# EAGLE library part 1508АС015 (library microwave)
АЕНВ.431230.245 ТУ 1508АС015 - Микросхема синтезатора частот с дробным коэффициентом деления и основной частотой до 12 ГГц. Производитель: АО "ПКК Миландр", г. Москва, Зеленоград.
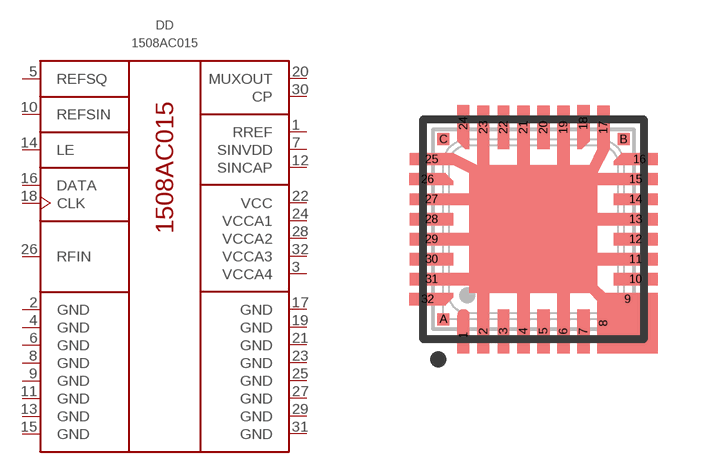
[diagram p20: symbol with the pads of 5102.32-2К; footprint 5102.32-2К]

Designator prefix DD

## 1508АС015  [5102.32-2К]
1  RREF  out
2  GND  pwr
3  VCCA4  pwr
4  GND  pwr
5  REFSQ  in
6  GND  pwr
7  SINVDD  pwr
8  GND  pwr
9  GND  pwr
10  REFSIN  in
11  GND  pwr
12  SINCAP  out
13  GND  pwr
14  LE  in
15  GND  pwr
16  DATA  in
17  GND  pwr
18  CLK  in
19  GND  pwr
20  MUXOUT  out
21  GND  pwr
22  VCC  pwr
23  GND  pwr
24  VCCA1  pwr
25  GND  pwr
26  RFIN  in
27  GND  pwr
28  VCCA2  pwr
29  GND  pwr
30  CP  out
31  GND  pwr
32  VCCA3  pwr

## Footprint 5102.32-2К (pad centres in mm)
smd 0.3 x 0.9: 1 -1.75,-2.65; 18 1.25,2.65; 24 -1.75,2.65
smd 0.3 x 1.1: 2 -1.25,-2.55; 3 -0.75,-2.55; 4 -0.25,-2.55; 5 0.25,-2.55; 6 0.75,-2.55; 7 1.25,-2.55; 17 1.75,2.55; 19 0.75,2.55; 20 0.25,2.55; 21 -0.25,2.55; 22 -0.75,2.55; 23 -1.25,2.55
smd 0.3 x 1.5: 8 1.75,-2.35
smd 1.5 x 0.3: 9 2.35,-1.75
smd 1.1 x 0.3: 10 2.55,-1.25; 11 2.55,-0.75; 12 2.55,-0.25; 13 2.55,0.25; 14 2.55,0.75; 15 2.55,1.25; 25 -2.55,1.75; 27 -2.55,0.75; 28 -2.55,0.25; 29 -2.55,-0.25; 30 -2.55,-0.75; 31 -2.55,-1.25
smd 0.9 x 0.3: 16 2.65,1.75; 26 -2.65,1.25; 32 -2.65,-1.75
smd 0.3 x 0.3: A -2.25,-2.25; B 2.25,2.25; C -2.25,2.25